# Altium footprint library Package_CSP.PcbLib: 178 footprints (part 9 of 12)
Each footprint in its own frame and in the unit in brackets; x right, y up, seen from the top. Pads: shape width x height; smd on the part's side, far side on the other; paste and mask are expansions set on the pad; w line width, h text height; cw(c..) or ccw(c..) is an arc to the next point about the centre after c.
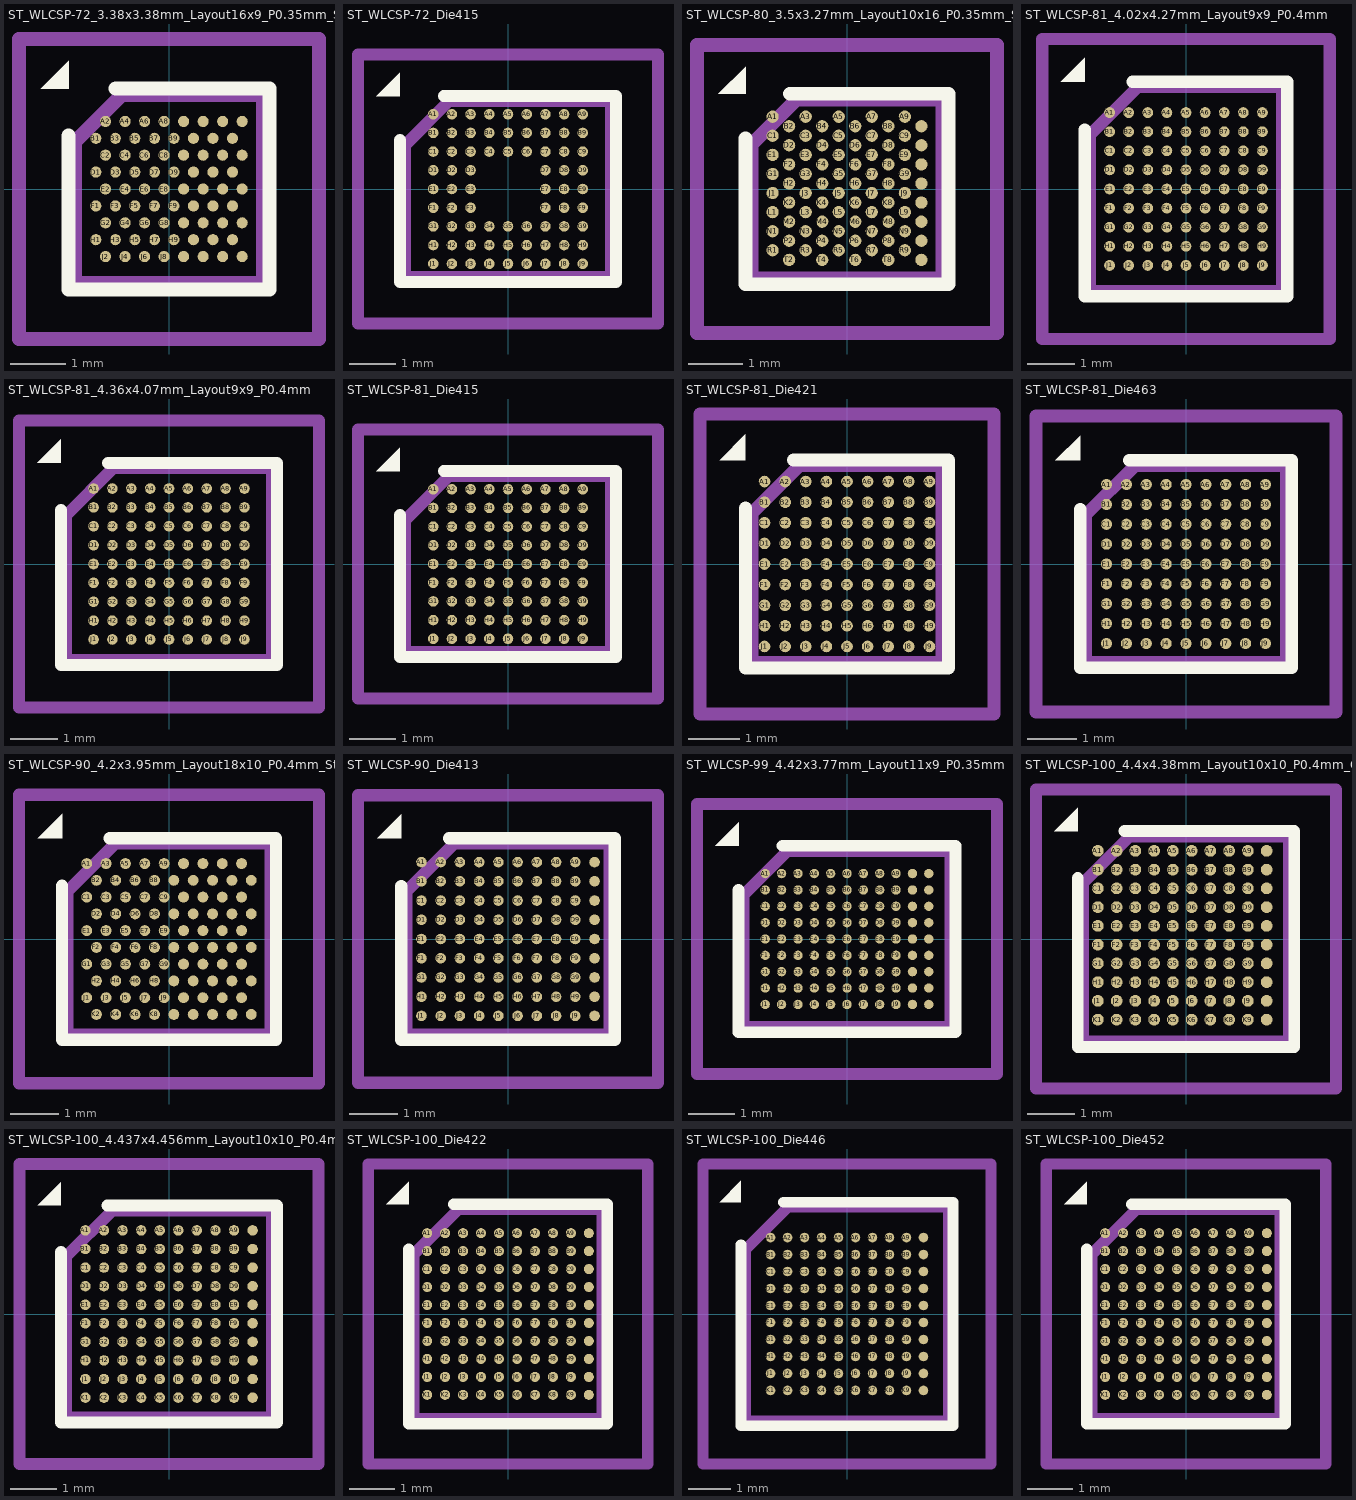
[diagram p8: the footprints below, top view; thin cyan lines are the x and y axes]

## ST_WLCSP-72_3.38x3.38mm_Layout16x9_P0.35mm_Stagger [mm]
pads (72):
  round 0.2 smd: A2(-1.138,1.212) A4(-0.787,1.212) A6(-0.437,1.212) A8(-0.088,1.212) A10(0.262,1.212) A12(0.613,1.212) A14(0.962,1.212) A16(1.312,1.212) B1(-1.312,0.909) B3(-0.962,0.909) B5(-0.613,0.909) B7(-0.262,0.909) B9(0.088,0.909) B11(0.437,0.909) B13(0.787,0.909) B15(1.138,0.909) C2(-1.138,0.606) C4(-0.787,0.606) C6(-0.437,0.606) C8(-0.088,0.606) C10(0.262,0.606) C12(0.613,0.606) C14(0.962,0.606) C16(1.312,0.606) D1(-1.312,0.303) D3(-0.962,0.303) D5(-0.613,0.303) D7(-0.262,0.303) D9(0.088,0.303) D11(0.437,0.303) D13(0.787,0.303) D15(1.138,0.303) E2(-1.138,0) E4(-0.787,0) E6(-0.437,0) E8(-0.088,0) E10(0.262,0) E12(0.613,0) E14(0.962,0) E16(1.312,0) F1(-1.312,-0.303) F3(-0.962,-0.303) F5(-0.613,-0.303) F7(-0.262,-0.303) F9(0.088,-0.303) F11(0.437,-0.303) F13(0.787,-0.303) F15(1.138,-0.303) G2(-1.138,-0.606) G4(-0.787,-0.606) G6(-0.437,-0.606) G8(-0.088,-0.606) G10(0.262,-0.606) G12(0.613,-0.606) G14(0.962,-0.606) G16(1.312,-0.606) H1(-1.312,-0.909) H3(-0.962,-0.909) H5(-0.613,-0.909) H7(-0.262,-0.909) H9(0.088,-0.909) H11(0.437,-0.909) H13(0.787,-0.909) H15(1.138,-0.909) J2(-1.138,-1.212) J4(-0.787,-1.212) J6(-0.437,-1.212) J8(-0.088,-1.212) J10(0.262,-1.212) J12(0.613,-1.212) J14(0.962,-1.212) J16(1.312,-1.212)
F.SilkS:
  region: -1.8,1.8 -2.3,1.8 -1.8,2.3
  lines w0.254: -1.8,0.955 -1.8,-1.8 1.8,-1.8 1.8,1.8 -0.955,1.8
Top Assembly:
  lines w0.254: -1.69,-1.69 1.69,-1.69 1.69,1.69 -0.845,1.69 -1.69,0.845 -1.69,-1.69
  text "'.Designator'" at -3.197,-0.664 h0.79
Top Courtyard:
  lines w0.254: -2.69,-2.69 2.69,-2.69 2.69,2.69 -2.69,2.69 -2.69,-2.69
Top Designator:
  text ".Designator" at -7.736,-0.508 h1.52

## ST_WLCSP-72_Die415 [mm]
pads (72):
  round 0.225 smd: A1(-1.6,1.6) A2(-1.2,1.6) A3(-0.8,1.6) A4(-0.4,1.6) A5(0,1.6) A6(0.4,1.6) A7(0.8,1.6) A8(1.2,1.6) A9(1.6,1.6) B1(-1.6,1.2) B2(-1.2,1.2) B3(-0.8,1.2) B4(-0.4,1.2) B5(0,1.2) B6(0.4,1.2) B7(0.8,1.2) B8(1.2,1.2) B9(1.6,1.2) C1(-1.6,0.8) C2(-1.2,0.8) C3(-0.8,0.8) C4(-0.4,0.8) C5(0,0.8) C6(0.4,0.8) C7(0.8,0.8) C8(1.2,0.8) C9(1.6,0.8) D1(-1.6,0.4) D2(-1.2,0.4) D3(-0.8,0.4) D7(0.8,0.4) D8(1.2,0.4) D9(1.6,0.4) E1(-1.6,0) E2(-1.2,0) E3(-0.8,0) E7(0.8,0) E8(1.2,0) E9(1.6,0) F1(-1.6,-0.4) F2(-1.2,-0.4) F3(-0.8,-0.4) F7(0.8,-0.4) F8(1.2,-0.4) F9(1.6,-0.4) G1(-1.6,-0.8) G2(-1.2,-0.8) G3(-0.8,-0.8) G4(-0.4,-0.8) G5(0,-0.8) G6(0.4,-0.8) G7(0.8,-0.8) G8(1.2,-0.8) G9(1.6,-0.8) H1(-1.6,-1.2) H2(-1.2,-1.2) H3(-0.8,-1.2) H4(-0.4,-1.2) H5(0,-1.2) H6(0.4,-1.2) H7(0.8,-1.2) H8(1.2,-1.2) H9(1.6,-1.2) J1(-1.6,-1.6) J2(-1.2,-1.6) J3(-0.8,-1.6) J4(-0.4,-1.6) J5(0,-1.6) J6(0.4,-1.6) J7(0.8,-1.6) J8(1.2,-1.6) J9(1.6,-1.6)
F.SilkS:
  region: -2.314,1.99 -2.814,1.99 -2.314,2.49
  lines w0.254: -2.314,1.05 -2.314,-1.99 2.314,-1.99 2.314,1.99 -1.374,1.99
Top Assembly:
  lines w0.254: -2.204,-1.88 2.204,-1.88 2.204,1.88 -1.264,1.88 -2.204,0.94 -2.204,-1.88
  text "'.Designator'" at -4.047,-0.84 h1
Top Courtyard:
  lines w0.254: -3.21,-2.88 3.21,-2.88 3.21,2.88 -3.21,2.88 -3.21,-2.88
Top Designator:
  text ".Designator" at -7.768,-0.508 h1.52

## ST_WLCSP-80_3.5x3.27mm_Layout10x16_P0.35mm_Stagger_Offcenter [mm]
pads (80):
  round 0.225 smd: A1(-1.364,1.326) A3(-0.758,1.326) A5(-0.152,1.326) A7(0.455,1.326) A9(1.061,1.326) B2(-1.061,1.151) B4(-0.455,1.151) B6(0.152,1.151) B8(0.758,1.151) B10(1.364,1.151) C1(-1.364,0.976) C3(-0.758,0.976) C5(-0.152,0.976) C7(0.455,0.976) C9(1.061,0.976) D2(-1.061,0.801) D4(-0.455,0.801) D6(0.152,0.801) D8(0.758,0.801) D10(1.364,0.801) E1(-1.364,0.626) E3(-0.758,0.626) E5(-0.152,0.626) E7(0.455,0.626) E9(1.061,0.626) F2(-1.061,0.451) F4(-0.455,0.451) F6(0.152,0.451) F8(0.758,0.451) F10(1.364,0.451) G1(-1.364,0.276) G3(-0.758,0.276) G5(-0.152,0.276) G7(0.455,0.276) G9(1.061,0.276) H2(-1.061,0.101) H4(-0.455,0.101) H6(0.152,0.101) H8(0.758,0.101) H10(1.364,0.101) J1(-1.364,-0.074) J3(-0.758,-0.074) J5(-0.152,-0.074) J7(0.455,-0.074) J9(1.061,-0.074) K2(-1.061,-0.249) K4(-0.455,-0.249) K6(0.152,-0.249) K8(0.758,-0.249) K10(1.364,-0.249) L1(-1.364,-0.424) L3(-0.758,-0.424) L5(-0.152,-0.424) L7(0.455,-0.424) L9(1.061,-0.424) M2(-1.061,-0.599) M4(-0.455,-0.599) M6(0.152,-0.599) M8(0.758,-0.599) M10(1.364,-0.599) N1(-1.364,-0.774) N3(-0.758,-0.774) N5(-0.152,-0.774) N7(0.455,-0.774) N9(1.061,-0.774) P2(-1.061,-0.949) P4(-0.455,-0.949) P6(0.152,-0.949) P8(0.758,-0.949) P10(1.364,-0.949) R1(-1.364,-1.124) R3(-0.758,-1.124) R5(-0.152,-1.124) R7(0.455,-1.124) R9(1.061,-1.124) T2(-1.061,-1.299) T4(-0.455,-1.299) T6(0.152,-1.299) T8(0.758,-1.299) T10(1.364,-1.299)
F.SilkS:
  region: -1.86,1.745 -2.36,1.745 -1.86,2.245
  lines w0.254: -1.86,0.927 -1.86,-1.745 1.86,-1.745 1.86,1.745 -1.042,1.745
Top Assembly:
  lines w0.254: -1.75,-1.635 1.75,-1.635 1.75,1.635 -0.933,1.635 -1.75,0.817 -1.75,-1.635
  text "'.Designator'" at -3.278,-0.681 h0.81
Top Courtyard:
  lines w0.254: -2.75,-2.64 2.75,-2.64 2.75,2.64 -2.75,2.64 -2.75,-2.64
Top Designator:
  text ".Designator" at -7.739,-0.508 h1.52

## ST_WLCSP-81_4.02x4.27mm_Layout9x9_P0.4mm [mm]
pads (81):
  round 0.225 smd: A1(-1.6,1.6) A2(-1.2,1.6) A3(-0.8,1.6) A4(-0.4,1.6) A5(0,1.6) A6(0.4,1.6) A7(0.8,1.6) A8(1.2,1.6) A9(1.6,1.6) B1(-1.6,1.2) B2(-1.2,1.2) B3(-0.8,1.2) B4(-0.4,1.2) B5(0,1.2) B6(0.4,1.2) B7(0.8,1.2) B8(1.2,1.2) B9(1.6,1.2) C1(-1.6,0.8) C2(-1.2,0.8) C3(-0.8,0.8) C4(-0.4,0.8) C5(0,0.8) C6(0.4,0.8) C7(0.8,0.8) C8(1.2,0.8) C9(1.6,0.8) D1(-1.6,0.4) D2(-1.2,0.4) D3(-0.8,0.4) D4(-0.4,0.4) D5(0,0.4) D6(0.4,0.4) D7(0.8,0.4) D8(1.2,0.4) D9(1.6,0.4) E1(-1.6,0) E2(-1.2,0) E3(-0.8,0) E4(-0.4,0) E5(0,0) E6(0.4,0) E7(0.8,0) E8(1.2,0) E9(1.6,0) F1(-1.6,-0.4) F2(-1.2,-0.4) F3(-0.8,-0.4) F4(-0.4,-0.4) F5(0,-0.4) F6(0.4,-0.4) F7(0.8,-0.4) F8(1.2,-0.4) F9(1.6,-0.4) G1(-1.6,-0.8) G2(-1.2,-0.8) G3(-0.8,-0.8) G4(-0.4,-0.8) G5(0,-0.8) G6(0.4,-0.8) G7(0.8,-0.8) G8(1.2,-0.8) G9(1.6,-0.8) H1(-1.6,-1.2) H2(-1.2,-1.2) H3(-0.8,-1.2) H4(-0.4,-1.2) H5(0,-1.2) H6(0.4,-1.2) H7(0.8,-1.2) H8(1.2,-1.2) H9(1.6,-1.2) J1(-1.6,-1.6) J2(-1.2,-1.6) J3(-0.8,-1.6) J4(-0.4,-1.6) J5(0,-1.6) J6(0.4,-1.6) J7(0.8,-1.6) J8(1.2,-1.6) J9(1.6,-1.6)
F.SilkS:
  region: -2.12,2.245 -2.62,2.245 -2.12,2.745
  lines w0.254: -2.12,1.245 -2.12,-2.245 2.12,-2.245 2.12,2.245 -1.12,2.245
Top Assembly:
  lines w0.254: -2.01,-2.135 2.01,-2.135 2.01,2.135 -1.01,2.135 -2.01,1.135 -2.01,-2.135
  text "'.Designator'" at -0.832,4.006 h0.99
Top Courtyard:
  lines w0.254: -3.01,-3.14 3.01,-3.14 3.01,3.14 -3.01,3.14 -3.01,-3.14
Top Designator:
  text ".Designator" at -7.618,-0.359 h1.52

## ST_WLCSP-81_4.36x4.07mm_Layout9x9_P0.4mm [mm]
pads (81):
  round 0.225 smd: A1(-1.6,1.6) A2(-1.2,1.6) A3(-0.8,1.6) A4(-0.4,1.6) A5(0,1.6) A6(0.4,1.6) A7(0.8,1.6) A8(1.2,1.6) A9(1.6,1.6) B1(-1.6,1.2) B2(-1.2,1.2) B3(-0.8,1.2) B4(-0.4,1.2) B5(0,1.2) B6(0.4,1.2) B7(0.8,1.2) B8(1.2,1.2) B9(1.6,1.2) C1(-1.6,0.8) C2(-1.2,0.8) C3(-0.8,0.8) C4(-0.4,0.8) C5(0,0.8) C6(0.4,0.8) C7(0.8,0.8) C8(1.2,0.8) C9(1.6,0.8) D1(-1.6,0.4) D2(-1.2,0.4) D3(-0.8,0.4) D4(-0.4,0.4) D5(0,0.4) D6(0.4,0.4) D7(0.8,0.4) D8(1.2,0.4) D9(1.6,0.4) E1(-1.6,0) E2(-1.2,0) E3(-0.8,0) E4(-0.4,0) E5(0,0) E6(0.4,0) E7(0.8,0) E8(1.2,0) E9(1.6,0) F1(-1.6,-0.4) F2(-1.2,-0.4) F3(-0.8,-0.4) F4(-0.4,-0.4) F5(0,-0.4) F6(0.4,-0.4) F7(0.8,-0.4) F8(1.2,-0.4) F9(1.6,-0.4) G1(-1.6,-0.8) G2(-1.2,-0.8) G3(-0.8,-0.8) G4(-0.4,-0.8) G5(0,-0.8) G6(0.4,-0.8) G7(0.8,-0.8) G8(1.2,-0.8) G9(1.6,-0.8) H1(-1.6,-1.2) H2(-1.2,-1.2) H3(-0.8,-1.2) H4(-0.4,-1.2) H5(0,-1.2) H6(0.4,-1.2) H7(0.8,-1.2) H8(1.2,-1.2) H9(1.6,-1.2) J1(-1.6,-1.6) J2(-1.2,-1.6) J3(-0.8,-1.6) J4(-0.4,-1.6) J5(0,-1.6) J6(0.4,-1.6) J7(0.8,-1.6) J8(1.2,-1.6) J9(1.6,-1.6)
F.SilkS:
  region: -2.29,2.145 -2.79,2.145 -2.29,2.645
  lines w0.254: -2.29,1.145 -2.29,-2.145 2.29,-2.145 2.29,2.145 -1.29,2.145
Top Assembly:
  lines w0.254: -2.18,-2.035 2.18,-2.035 2.18,2.035 -1.18,2.035 -2.18,1.035 -2.18,-2.035
  text "'.Designator'" at -4.047,-0.84 h1
Top Courtyard:
  lines w0.254: -3.18,-3.04 3.18,-3.04 3.18,3.04 -3.18,3.04 -3.18,-3.04
Top Designator:
  text ".Designator" at -7.768,-0.508 h1.52

## ST_WLCSP-81_Die415 [mm]
pads (81):
  round 0.225 smd: A1(-1.6,1.6) A2(-1.2,1.6) A3(-0.8,1.6) A4(-0.4,1.6) A5(0,1.6) A6(0.4,1.6) A7(0.8,1.6) A8(1.2,1.6) A9(1.6,1.6) B1(-1.6,1.2) B2(-1.2,1.2) B3(-0.8,1.2) B4(-0.4,1.2) B5(0,1.2) B6(0.4,1.2) B7(0.8,1.2) B8(1.2,1.2) B9(1.6,1.2) C1(-1.6,0.8) C2(-1.2,0.8) C3(-0.8,0.8) C4(-0.4,0.8) C5(0,0.8) C6(0.4,0.8) C7(0.8,0.8) C8(1.2,0.8) C9(1.6,0.8) D1(-1.6,0.4) D2(-1.2,0.4) D3(-0.8,0.4) D4(-0.4,0.4) D5(0,0.4) D6(0.4,0.4) D7(0.8,0.4) D8(1.2,0.4) D9(1.6,0.4) E1(-1.6,0) E2(-1.2,0) E3(-0.8,0) E4(-0.4,0) E5(0,0) E6(0.4,0) E7(0.8,0) E8(1.2,0) E9(1.6,0) F1(-1.6,-0.4) F2(-1.2,-0.4) F3(-0.8,-0.4) F4(-0.4,-0.4) F5(0,-0.4) F6(0.4,-0.4) F7(0.8,-0.4) F8(1.2,-0.4) F9(1.6,-0.4) G1(-1.6,-0.8) G2(-1.2,-0.8) G3(-0.8,-0.8) G4(-0.4,-0.8) G5(0,-0.8) G6(0.4,-0.8) G7(0.8,-0.8) G8(1.2,-0.8) G9(1.6,-0.8) H1(-1.6,-1.2) H2(-1.2,-1.2) H3(-0.8,-1.2) H4(-0.4,-1.2) H5(0,-1.2) H6(0.4,-1.2) H7(0.8,-1.2) H8(1.2,-1.2) H9(1.6,-1.2) J1(-1.6,-1.6) J2(-1.2,-1.6) J3(-0.8,-1.6) J4(-0.4,-1.6) J5(0,-1.6) J6(0.4,-1.6) J7(0.8,-1.6) J8(1.2,-1.6) J9(1.6,-1.6)
F.SilkS:
  region: -2.314,1.99 -2.814,1.99 -2.314,2.49
  lines w0.254: -2.314,1.05 -2.314,-1.99 2.314,-1.99 2.314,1.99 -1.374,1.99
Top Assembly:
  lines w0.254: -2.204,-1.88 2.204,-1.88 2.204,1.88 -1.264,1.88 -2.204,0.94 -2.204,-1.88
  text "'.Designator'" at -4.047,-0.84 h1
Top Courtyard:
  lines w0.254: -3.21,-2.88 3.21,-2.88 3.21,2.88 -3.21,2.88 -3.21,-2.88
Top Designator:
  text ".Designator" at -7.768,-0.508 h1.52

## ST_WLCSP-81_Die421 [mm]
pads (81):
  round 0.225 smd: A1(-1.6,1.6) A2(-1.2,1.6) A3(-0.8,1.6) A4(-0.4,1.6) A5(0,1.6) A6(0.4,1.6) A7(0.8,1.6) A8(1.2,1.6) A9(1.6,1.6) B1(-1.6,1.2) B2(-1.2,1.2) B3(-0.8,1.2) B4(-0.4,1.2) B5(0,1.2) B6(0.4,1.2) B7(0.8,1.2) B8(1.2,1.2) B9(1.6,1.2) C1(-1.6,0.8) C2(-1.2,0.8) C3(-0.8,0.8) C4(-0.4,0.8) C5(0,0.8) C6(0.4,0.8) C7(0.8,0.8) C8(1.2,0.8) C9(1.6,0.8) D1(-1.6,0.4) D2(-1.2,0.4) D3(-0.8,0.4) D4(-0.4,0.4) D5(0,0.4) D6(0.4,0.4) D7(0.8,0.4) D8(1.2,0.4) D9(1.6,0.4) E1(-1.6,0) E2(-1.2,0) E3(-0.8,0) E4(-0.4,0) E5(0,0) E6(0.4,0) E7(0.8,0) E8(1.2,0) E9(1.6,0) F1(-1.6,-0.4) F2(-1.2,-0.4) F3(-0.8,-0.4) F4(-0.4,-0.4) F5(0,-0.4) F6(0.4,-0.4) F7(0.8,-0.4) F8(1.2,-0.4) F9(1.6,-0.4) G1(-1.6,-0.8) G2(-1.2,-0.8) G3(-0.8,-0.8) G4(-0.4,-0.8) G5(0,-0.8) G6(0.4,-0.8) G7(0.8,-0.8) G8(1.2,-0.8) G9(1.6,-0.8) H1(-1.6,-1.2) H2(-1.2,-1.2) H3(-0.8,-1.2) H4(-0.4,-1.2) H5(0,-1.2) H6(0.4,-1.2) H7(0.8,-1.2) H8(1.2,-1.2) H9(1.6,-1.2) J1(-1.6,-1.6) J2(-1.2,-1.6) J3(-0.8,-1.6) J4(-0.4,-1.6) J5(0,-1.6) J6(0.4,-1.6) J7(0.8,-1.6) J8(1.2,-1.6) J9(1.6,-1.6)
F.SilkS:
  region: -1.973,2.017 -2.472,2.017 -1.973,2.518
  lines w0.254: -1.973,1.086 -1.973,-2.017 1.973,-2.017 1.973,2.017 -1.041,2.017
Top Assembly:
  lines w0.254: -1.847,-1.907 1.847,-1.907 1.847,1.907 -0.923,1.907 -1.847,0.984 -1.847,-1.907
  text "'.Designator'" at -0.748,3.602 h0.89
Top Courtyard:
  lines w0.254: -2.85,-2.91 2.85,-2.91 2.85,2.91 -2.85,2.91 -2.85,-2.91
Top Designator:
  text ".Designator" at -7.618,-0.374 h1.52

## ST_WLCSP-81_Die463 [mm]
pads (81):
  round 0.225 smd: A1(-1.6,1.6) A2(-1.2,1.6) A3(-0.8,1.6) A4(-0.4,1.6) A5(0,1.6) A6(0.4,1.6) A7(0.8,1.6) A8(1.2,1.6) A9(1.6,1.6) B1(-1.6,1.2) B2(-1.2,1.2) B3(-0.8,1.2) B4(-0.4,1.2) B5(0,1.2) B6(0.4,1.2) B7(0.8,1.2) B8(1.2,1.2) B9(1.6,1.2) C1(-1.6,0.8) C2(-1.2,0.8) C3(-0.8,0.8) C4(-0.4,0.8) C5(0,0.8) C6(0.4,0.8) C7(0.8,0.8) C8(1.2,0.8) C9(1.6,0.8) D1(-1.6,0.4) D2(-1.2,0.4) D3(-0.8,0.4) D4(-0.4,0.4) D5(0,0.4) D6(0.4,0.4) D7(0.8,0.4) D8(1.2,0.4) D9(1.6,0.4) E1(-1.6,0) E2(-1.2,0) E3(-0.8,0) E4(-0.4,0) E5(0,0) E6(0.4,0) E7(0.8,0) E8(1.2,0) E9(1.6,0) F1(-1.6,-0.4) F2(-1.2,-0.4) F3(-0.8,-0.4) F4(-0.4,-0.4) F5(0,-0.4) F6(0.4,-0.4) F7(0.8,-0.4) F8(1.2,-0.4) F9(1.6,-0.4) G1(-1.6,-0.8) G2(-1.2,-0.8) G3(-0.8,-0.8) G4(-0.4,-0.8) G5(0,-0.8) G6(0.4,-0.8) G7(0.8,-0.8) G8(1.2,-0.8) G9(1.6,-0.8) H1(-1.6,-1.2) H2(-1.2,-1.2) H3(-0.8,-1.2) H4(-0.4,-1.2) H5(0,-1.2) H6(0.4,-1.2) H7(0.8,-1.2) H8(1.2,-1.2) H9(1.6,-1.2) J1(-1.6,-1.6) J2(-1.2,-1.6) J3(-0.8,-1.6) J4(-0.4,-1.6) J5(0,-1.6) J6(0.4,-1.6) J7(0.8,-1.6) J8(1.2,-1.6) J9(1.6,-1.6)
F.SilkS:
  region: -2.13,2.086 -2.629,2.086 -2.13,2.585
  lines w0.254: -2.13,1.098 -2.13,-2.086 2.13,-2.086 2.13,2.086 -1.142,2.086
Top Assembly:
  lines w0.254: -2.02,-1.976 2.02,-1.976 2.02,1.976 -1.032,1.976 -2.02,0.988 -2.02,-1.976
  text "'.Designator'" at -3.804,-0.79 h0.94
Top Courtyard:
  lines w0.254: -3.02,-2.98 3.02,-2.98 3.02,2.98 -3.02,2.98 -3.02,-2.98
Top Designator:
  text ".Designator" at -7.759,-0.508 h1.52

## ST_WLCSP-90_4.2x3.95mm_Layout18x10_P0.4mm_Stagger [mm]
pads (90):
  round 0.225 smd: A1(-1.7,1.559) A3(-1.3,1.559) A5(-0.9,1.559) A7(-0.5,1.559) A9(-0.1,1.559) A11(0.3,1.559) A13(0.7,1.559) A15(1.1,1.559) A17(1.5,1.559) B2(-1.5,1.212) B4(-1.1,1.212) B6(-0.7,1.212) B8(-0.3,1.212) B10(0.1,1.212) B12(0.5,1.212) B14(0.9,1.212) B16(1.3,1.212) B18(1.7,1.212) C1(-1.7,0.866) C3(-1.3,0.866) C5(-0.9,0.866) C7(-0.5,0.866) C9(-0.1,0.866) C11(0.3,0.866) C13(0.7,0.866) C15(1.1,0.866) C17(1.5,0.866) D2(-1.5,0.52) D4(-1.1,0.52) D6(-0.7,0.52) D8(-0.3,0.52) D10(0.1,0.52) D12(0.5,0.52) D14(0.9,0.52) D16(1.3,0.52) D18(1.7,0.52) E1(-1.7,0.173) E3(-1.3,0.173) E5(-0.9,0.173) E7(-0.5,0.173) E9(-0.1,0.173) E11(0.3,0.173) E13(0.7,0.173) E15(1.1,0.173) E17(1.5,0.173) F2(-1.5,-0.173) F4(-1.1,-0.173) F6(-0.7,-0.173) F8(-0.3,-0.173) F10(0.1,-0.173) F12(0.5,-0.173) F14(0.9,-0.173) F16(1.3,-0.173) F18(1.7,-0.173) G1(-1.7,-0.52) G3(-1.3,-0.52) G5(-0.9,-0.52) G7(-0.5,-0.52) G9(-0.1,-0.52) G11(0.3,-0.52) G13(0.7,-0.52) G15(1.1,-0.52) G17(1.5,-0.52) H2(-1.5,-0.866) H4(-1.1,-0.866) H6(-0.7,-0.866) H8(-0.3,-0.866) H10(0.1,-0.866) H12(0.5,-0.866) H14(0.9,-0.866) H16(1.3,-0.866) H18(1.7,-0.866) J1(-1.7,-1.212) J3(-1.3,-1.212) J5(-0.9,-1.212) J7(-0.5,-1.212) J9(-0.1,-1.212) J11(0.3,-1.212) J13(0.7,-1.212) J15(1.1,-1.212) J17(1.5,-1.212) K2(-1.5,-1.559) K4(-1.1,-1.559) K6(-0.7,-1.559) K8(-0.3,-1.559) K10(0.1,-1.559) K12(0.5,-1.559) K14(0.9,-1.559) K16(1.3,-1.559) K18(1.7,-1.559)
F.SilkS:
  region: -2.21,2.085 -2.71,2.085 -2.21,2.585
  lines w0.254: -2.21,1.098 -2.21,-2.085 2.21,-2.085 2.21,2.085 -1.222,2.085
Top Assembly:
  lines w0.254: -2.1,-1.975 2.1,-1.975 2.1,1.975 -1.112,1.975 -2.1,0.988 -2.1,-1.975
  text "'.Designator'" at -3.966,-0.824 h0.98
Top Courtyard:
  lines w0.254: -3.1,-2.98 3.1,-2.98 3.1,2.98 -3.1,2.98 -3.1,-2.98
Top Designator:
  text ".Designator" at -7.765,-0.508 h1.52

## ST_WLCSP-90_Die413 [mm]
pads (90):
  round 0.22 smd: A1(-1.8,1.6) A2(-1.4,1.6) A3(-1,1.6) A4(-0.6,1.6) A5(-0.2,1.6) A6(0.2,1.6) A7(0.6,1.6) A8(1,1.6) A9(1.4,1.6) A10(1.8,1.6) B1(-1.8,1.2) B2(-1.4,1.2) B3(-1,1.2) B4(-0.6,1.2) B5(-0.2,1.2) B6(0.2,1.2) B7(0.6,1.2) B8(1,1.2) B9(1.4,1.2) B10(1.8,1.2) C1(-1.8,0.8) C2(-1.4,0.8) C3(-1,0.8) C4(-0.6,0.8) C5(-0.2,0.8) C6(0.2,0.8) C7(0.6,0.8) C8(1,0.8) C9(1.4,0.8) C10(1.8,0.8) D1(-1.8,0.4) D2(-1.4,0.4) D3(-1,0.4) D4(-0.6,0.4) D5(-0.2,0.4) D6(0.2,0.4) D7(0.6,0.4) D8(1,0.4) D9(1.4,0.4) D10(1.8,0.4) E1(-1.8,0) E2(-1.4,0) E3(-1,0) E4(-0.6,0) E5(-0.2,0) E6(0.2,0) E7(0.6,0) E8(1,0) E9(1.4,0) E10(1.8,0) F1(-1.8,-0.4) F2(-1.4,-0.4) F3(-1,-0.4) F4(-0.6,-0.4) F5(-0.2,-0.4) F6(0.2,-0.4) F7(0.6,-0.4) F8(1,-0.4) F9(1.4,-0.4) F10(1.8,-0.4) G1(-1.8,-0.8) G2(-1.4,-0.8) G3(-1,-0.8) G4(-0.6,-0.8) G5(-0.2,-0.8) G6(0.2,-0.8) G7(0.6,-0.8) G8(1,-0.8) G9(1.4,-0.8) G10(1.8,-0.8) H1(-1.8,-1.2) H2(-1.4,-1.2) H3(-1,-1.2) H4(-0.6,-1.2) H5(-0.2,-1.2) H6(0.2,-1.2) H7(0.6,-1.2) H8(1,-1.2) H9(1.4,-1.2) H10(1.8,-1.2) J1(-1.8,-1.6) J2(-1.4,-1.6) J3(-1,-1.6) J4(-0.6,-1.6) J5(-0.2,-1.6) J6(0.2,-1.6) J7(0.6,-1.6) J8(1,-1.6) J9(1.4,-1.6) J10(1.8,-1.6)
F.SilkS:
  region: -2.221,2.094 -2.722,2.094 -2.221,2.595
  lines w0.254: -2.221,1.102 -2.221,-2.094 2.221,-2.094 2.221,2.094 -1.229,2.094
Top Assembly:
  lines w0.254: -2.111,-1.984 2.111,-1.984 2.111,1.984 -1.119,1.984 -2.111,0.992 -2.111,-1.984
  text "'.Designator'" at -3.966,-0.824 h0.98
Top Courtyard:
  lines w0.254: -3.12,-2.99 3.12,-2.99 3.12,2.99 -3.12,2.99 -3.12,-2.99
Top Designator:
  text ".Designator" at -7.765,-0.508 h1.52

## ST_WLCSP-99_4.42x3.77mm_Layout11x9_P0.35mm [mm]
pads (99):
  round 0.2 smd: A1(-1.75,1.4) A2(-1.4,1.4) A3(-1.05,1.4) A4(-0.7,1.4) A5(-0.35,1.4) A6(0,1.4) A7(0.35,1.4) A8(0.7,1.4) A9(1.05,1.4) A10(1.4,1.4) A11(1.75,1.4) B1(-1.75,1.05) B2(-1.4,1.05) B3(-1.05,1.05) B4(-0.7,1.05) B5(-0.35,1.05) B6(0,1.05) B7(0.35,1.05) B8(0.7,1.05) B9(1.05,1.05) B10(1.4,1.05) B11(1.75,1.05) C1(-1.75,0.7) C2(-1.4,0.7) C3(-1.05,0.7) C4(-0.7,0.7) C5(-0.35,0.7) C6(0,0.7) C7(0.35,0.7) C8(0.7,0.7) C9(1.05,0.7) C10(1.4,0.7) C11(1.75,0.7) D1(-1.75,0.35) D2(-1.4,0.35) D3(-1.05,0.35) D4(-0.7,0.35) D5(-0.35,0.35) D6(0,0.35) D7(0.35,0.35) D8(0.7,0.35) D9(1.05,0.35) D10(1.4,0.35) D11(1.75,0.35) E1(-1.75,0) E2(-1.4,0) E3(-1.05,0) E4(-0.7,0) E5(-0.35,0) E6(0,0) E7(0.35,0) E8(0.7,0) E9(1.05,0) E10(1.4,0) E11(1.75,0) F1(-1.75,-0.35) F2(-1.4,-0.35) F3(-1.05,-0.35) F4(-0.7,-0.35) F5(-0.35,-0.35) F6(0,-0.35) F7(0.35,-0.35) F8(0.7,-0.35) F9(1.05,-0.35) F10(1.4,-0.35) F11(1.75,-0.35) G1(-1.75,-0.7) G2(-1.4,-0.7) G3(-1.05,-0.7) G4(-0.7,-0.7) G5(-0.35,-0.7) G6(0,-0.7) G7(0.35,-0.7) G8(0.7,-0.7) G9(1.05,-0.7) G10(1.4,-0.7) G11(1.75,-0.7) H1(-1.75,-1.05) H2(-1.4,-1.05) H3(-1.05,-1.05) H4(-0.7,-1.05) H5(-0.35,-1.05) H6(0,-1.05) H7(0.35,-1.05) H8(0.7,-1.05) H9(1.05,-1.05) H10(1.4,-1.05) H11(1.75,-1.05) J1(-1.75,-1.4) J2(-1.4,-1.4) J3(-1.05,-1.4) J4(-0.7,-1.4) J5(-0.35,-1.4) J6(0,-1.4) J7(0.35,-1.4) J8(0.7,-1.4) J9(1.05,-1.4) J10(1.4,-1.4) J11(1.75,-1.4)
F.SilkS:
  region: -2.32,1.995 -2.82,1.995 -2.32,2.495
  lines w0.254: -2.32,1.052 -2.32,-1.995 2.32,-1.995 2.32,1.995 -1.378,1.995
Top Assembly:
  lines w0.254: -2.21,-1.885 2.21,-1.885 2.21,1.885 -1.268,1.885 -2.21,0.943 -2.21,-1.885
  text "'.Designator'" at -4.047,-0.84 h1
Top Courtyard:
  lines w0.254: -3.21,-2.89 3.21,-2.89 3.21,2.89 -3.21,2.89 -3.21,-2.89
Top Designator:
  text ".Designator" at -7.768,-0.508 h1.52

## ST_WLCSP-100_4.4x4.38mm_Layout10x10_P0.4mm_Offcenter [mm]
pads (100):
  round 0.25 smd: A1(-1.88,1.88) A2(-1.48,1.88) A3(-1.08,1.88) A4(-0.68,1.88) A5(-0.28,1.88) A6(0.12,1.88) A7(0.52,1.88) A8(0.92,1.88) A9(1.32,1.88) A10(1.72,1.88) B1(-1.88,1.48) B2(-1.48,1.48) B3(-1.08,1.48) B4(-0.68,1.48) B5(-0.28,1.48) B6(0.12,1.48) B7(0.52,1.48) B8(0.92,1.48) B9(1.32,1.48) B10(1.72,1.48) C1(-1.88,1.08) C2(-1.48,1.08) C3(-1.08,1.08) C4(-0.68,1.08) C5(-0.28,1.08) C6(0.12,1.08) C7(0.52,1.08) C8(0.92,1.08) C9(1.32,1.08) C10(1.72,1.08) D1(-1.88,0.68) D2(-1.48,0.68) D3(-1.08,0.68) D4(-0.68,0.68) D5(-0.28,0.68) D6(0.12,0.68) D7(0.52,0.68) D8(0.92,0.68) D9(1.32,0.68) D10(1.72,0.68) E1(-1.88,0.28) E2(-1.48,0.28) E3(-1.08,0.28) E4(-0.68,0.28) E5(-0.28,0.28) E6(0.12,0.28) E7(0.52,0.28) E8(0.92,0.28) E9(1.32,0.28) E10(1.72,0.28) F1(-1.88,-0.12) F2(-1.48,-0.12) F3(-1.08,-0.12) F4(-0.68,-0.12) F5(-0.28,-0.12) F6(0.12,-0.12) F7(0.52,-0.12) F8(0.92,-0.12) F9(1.32,-0.12) F10(1.72,-0.12) G1(-1.88,-0.52) G2(-1.48,-0.52) G3(-1.08,-0.52) G4(-0.68,-0.52) G5(-0.28,-0.52) G6(0.12,-0.52) G7(0.52,-0.52) G8(0.92,-0.52) G9(1.32,-0.52) G10(1.72,-0.52) H1(-1.88,-0.92) H2(-1.48,-0.92) H3(-1.08,-0.92) H4(-0.68,-0.92) H5(-0.28,-0.92) H6(0.12,-0.92) H7(0.52,-0.92) H8(0.92,-0.92) H9(1.32,-0.92) H10(1.72,-0.92) J1(-1.88,-1.32) J2(-1.48,-1.32) J3(-1.08,-1.32) J4(-0.68,-1.32) J5(-0.28,-1.32) J6(0.12,-1.32) J7(0.52,-1.32) J8(0.92,-1.32) J9(1.32,-1.32) J10(1.72,-1.32) K1(-1.88,-1.72) K2(-1.48,-1.72) K3(-1.08,-1.72) K4(-0.68,-1.72) K5(-0.28,-1.72) K6(0.12,-1.72) K7(0.52,-1.72) K8(0.92,-1.72) K9(1.32,-1.72) K10(1.72,-1.72)
F.SilkS:
  region: -2.31,2.3 -2.81,2.3 -2.31,2.8
  lines w0.254: -2.31,1.3 -2.31,-2.3 2.31,-2.3 2.31,2.3 -1.31,2.3
Top Assembly:
  lines w0.254: -2.2,-2.19 2.2,-2.19 2.2,2.19 -1.2,2.19 -2.2,1.19 -2.2,-2.19
  text "'.Designator'" at -4.047,-0.84 h1
Top Courtyard:
  lines w0.254: -3.2,-3.19 3.2,-3.19 3.2,3.19 -3.2,3.19 -3.2,-3.19
Top Designator:
  text ".Designator" at -7.768,-0.508 h1.52

## ST_WLCSP-100_4.437x4.456mm_Layout10x10_P0.4mm [mm]
pads (100):
  round 0.225 smd: A1(-1.8,1.8) A2(-1.4,1.8) A3(-1,1.8) A4(-0.6,1.8) A5(-0.2,1.8) A6(0.2,1.8) A7(0.6,1.8) A8(1,1.8) A9(1.4,1.8) A10(1.8,1.8) B1(-1.8,1.4) B2(-1.4,1.4) B3(-1,1.4) B4(-0.6,1.4) B5(-0.2,1.4) B6(0.2,1.4) B7(0.6,1.4) B8(1,1.4) B9(1.4,1.4) B10(1.8,1.4) C1(-1.8,1) C2(-1.4,1) C3(-1,1) C4(-0.6,1) C5(-0.2,1) C6(0.2,1) C7(0.6,1) C8(1,1) C9(1.4,1) C10(1.8,1) D1(-1.8,0.6) D2(-1.4,0.6) D3(-1,0.6) D4(-0.6,0.6) D5(-0.2,0.6) D6(0.2,0.6) D7(0.6,0.6) D8(1,0.6) D9(1.4,0.6) D10(1.8,0.6) E1(-1.8,0.2) E2(-1.4,0.2) E3(-1,0.2) E4(-0.6,0.2) E5(-0.2,0.2) E6(0.2,0.2) E7(0.6,0.2) E8(1,0.2) E9(1.4,0.2) E10(1.8,0.2) F1(-1.8,-0.2) F2(-1.4,-0.2) F3(-1,-0.2) F4(-0.6,-0.2) F5(-0.2,-0.2) F6(0.2,-0.2) F7(0.6,-0.2) F8(1,-0.2) F9(1.4,-0.2) F10(1.8,-0.2) G1(-1.8,-0.6) G2(-1.4,-0.6) G3(-1,-0.6) G4(-0.6,-0.6) G5(-0.2,-0.6) G6(0.2,-0.6) G7(0.6,-0.6) G8(1,-0.6) G9(1.4,-0.6) G10(1.8,-0.6) H1(-1.8,-1) H2(-1.4,-1) H3(-1,-1) H4(-0.6,-1) H5(-0.2,-1) H6(0.2,-1) H7(0.6,-1) H8(1,-1) H9(1.4,-1) H10(1.8,-1) J1(-1.8,-1.4) J2(-1.4,-1.4) J3(-1,-1.4) J4(-0.6,-1.4) J5(-0.2,-1.4) J6(0.2,-1.4) J7(0.6,-1.4) J8(1,-1.4) J9(1.4,-1.4) J10(1.8,-1.4) K1(-1.8,-1.8) K2(-1.4,-1.8) K3(-1,-1.8) K4(-0.6,-1.8) K5(-0.2,-1.8) K6(0.2,-1.8) K7(0.6,-1.8) K8(1,-1.8) K9(1.4,-1.8) K10(1.8,-1.8)
F.SilkS:
  region: -2.328,2.338 -2.829,2.338 -2.328,2.838
  lines w0.254: -2.328,1.338 -2.328,-2.338 2.328,-2.338 2.328,2.338 -1.328,2.338
Top Assembly:
  lines w0.254: -2.218,-2.228 2.218,-2.228 2.218,2.228 -1.218,2.228 -2.218,1.228 -2.218,-2.228
  text "'.Designator'" at -4.047,-0.84 h1
Top Courtyard:
  lines w0.254: -3.22,-3.23 3.22,-3.23 3.22,3.23 -3.22,3.23 -3.22,-3.23
Top Designator:
  text ".Designator" at -7.768,-0.508 h1.52

## ST_WLCSP-100_Die422 [mm]
pads (100):
  round 0.225 smd: A1(-1.8,1.8) A2(-1.4,1.8) A3(-1,1.8) A4(-0.6,1.8) A5(-0.2,1.8) A6(0.2,1.8) A7(0.6,1.8) A8(1,1.8) A9(1.4,1.8) A10(1.8,1.8) B1(-1.8,1.4) B2(-1.4,1.4) B3(-1,1.4) B4(-0.6,1.4) B5(-0.2,1.4) B6(0.2,1.4) B7(0.6,1.4) B8(1,1.4) B9(1.4,1.4) B10(1.8,1.4) C1(-1.8,1) C2(-1.4,1) C3(-1,1) C4(-0.6,1) C5(-0.2,1) C6(0.2,1) C7(0.6,1) C8(1,1) C9(1.4,1) C10(1.8,1) D1(-1.8,0.6) D2(-1.4,0.6) D3(-1,0.6) D4(-0.6,0.6) D5(-0.2,0.6) D6(0.2,0.6) D7(0.6,0.6) D8(1,0.6) D9(1.4,0.6) D10(1.8,0.6) E1(-1.8,0.2) E2(-1.4,0.2) E3(-1,0.2) E4(-0.6,0.2) E5(-0.2,0.2) E6(0.2,0.2) E7(0.6,0.2) E8(1,0.2) E9(1.4,0.2) E10(1.8,0.2) F1(-1.8,-0.2) F2(-1.4,-0.2) F3(-1,-0.2) F4(-0.6,-0.2) F5(-0.2,-0.2) F6(0.2,-0.2) F7(0.6,-0.2) F8(1,-0.2) F9(1.4,-0.2) F10(1.8,-0.2) G1(-1.8,-0.6) G2(-1.4,-0.6) G3(-1,-0.6) G4(-0.6,-0.6) G5(-0.2,-0.6) G6(0.2,-0.6) G7(0.6,-0.6) G8(1,-0.6) G9(1.4,-0.6) G10(1.8,-0.6) H1(-1.8,-1) H2(-1.4,-1) H3(-1,-1) H4(-0.6,-1) H5(-0.2,-1) H6(0.2,-1) H7(0.6,-1) H8(1,-1) H9(1.4,-1) H10(1.8,-1) J1(-1.8,-1.4) J2(-1.4,-1.4) J3(-1,-1.4) J4(-0.6,-1.4) J5(-0.2,-1.4) J6(0.2,-1.4) J7(0.6,-1.4) J8(1,-1.4) J9(1.4,-1.4) J10(1.8,-1.4) K1(-1.8,-1.8) K2(-1.4,-1.8) K3(-1,-1.8) K4(-0.6,-1.8) K5(-0.2,-1.8) K6(0.2,-1.8) K7(0.6,-1.8) K8(1,-1.8) K9(1.4,-1.8) K10(1.8,-1.8)
F.SilkS:
  region: -2.211,2.441 -2.711,2.441 -2.211,2.942
  lines w0.254: -2.211,1.442 -2.211,-2.441 2.211,-2.441 2.211,2.441 -1.211,2.441
Top Assembly:
  lines w0.254: -2.101,-2.331 2.101,-2.331 2.101,2.331 -1.101,2.331 -2.101,1.332 -2.101,-2.331
  text "'.Designator'" at -0.84,4.047 h1
Top Courtyard:
  lines w0.254: -3.11,-3.34 3.11,-3.34 3.11,3.34 -3.11,3.34 -3.11,-3.34
Top Designator:
  text ".Designator" at -7.618,-0.358 h1.52

## ST_WLCSP-100_Die446 [mm]
pads (100):
  round 0.225 smd: A1(-1.8,1.8) A2(-1.4,1.8) A3(-1,1.8) A4(-0.6,1.8) A5(-0.2,1.8) A6(0.2,1.8) A7(0.6,1.8) A8(1,1.8) A9(1.4,1.8) A10(1.8,1.8) B1(-1.8,1.4) B2(-1.4,1.4) B3(-1,1.4) B4(-0.6,1.4) B5(-0.2,1.4) B6(0.2,1.4) B7(0.6,1.4) B8(1,1.4) B9(1.4,1.4) B10(1.8,1.4) C1(-1.8,1) C2(-1.4,1) C3(-1,1) C4(-0.6,1) C5(-0.2,1) C6(0.2,1) C7(0.6,1) C8(1,1) C9(1.4,1) C10(1.8,1) D1(-1.8,0.6) D2(-1.4,0.6) D3(-1,0.6) D4(-0.6,0.6) D5(-0.2,0.6) D6(0.2,0.6) D7(0.6,0.6) D8(1,0.6) D9(1.4,0.6) D10(1.8,0.6) E1(-1.8,0.2) E2(-1.4,0.2) E3(-1,0.2) E4(-0.6,0.2) E5(-0.2,0.2) E6(0.2,0.2) E7(0.6,0.2) E8(1,0.2) E9(1.4,0.2) E10(1.8,0.2) F1(-1.8,-0.2) F2(-1.4,-0.2) F3(-1,-0.2) F4(-0.6,-0.2) F5(-0.2,-0.2) F6(0.2,-0.2) F7(0.6,-0.2) F8(1,-0.2) F9(1.4,-0.2) F10(1.8,-0.2) G1(-1.8,-0.6) G2(-1.4,-0.6) G3(-1,-0.6) G4(-0.6,-0.6) G5(-0.2,-0.6) G6(0.2,-0.6) G7(0.6,-0.6) G8(1,-0.6) G9(1.4,-0.6) G10(1.8,-0.6) H1(-1.8,-1) H2(-1.4,-1) H3(-1,-1) H4(-0.6,-1) H5(-0.2,-1) H6(0.2,-1) H7(0.6,-1) H8(1,-1) H9(1.4,-1) H10(1.8,-1) J1(-1.8,-1.4) J2(-1.4,-1.4) J3(-1,-1.4) J4(-0.6,-1.4) J5(-0.2,-1.4) J6(0.2,-1.4) J7(0.6,-1.4) J8(1,-1.4) J9(1.4,-1.4) J10(1.8,-1.4) K1(-1.8,-1.8) K2(-1.4,-1.8) K3(-1,-1.8) K4(-0.6,-1.8) K5(-0.2,-1.8) K6(0.2,-1.8) K7(0.6,-1.8) K8(1,-1.8) K9(1.4,-1.8) K10(1.8,-1.8)
F.SilkS:
  region: -2.498,2.631 -2.997,2.631 -2.498,3.13
  lines w0.254: -2.498,1.63 -2.498,-2.631 2.498,-2.631 2.498,2.631 -1.498,2.631
Top Assembly:
  lines w0.254: -2.388,-2.521 2.388,-2.521 2.388,2.521 -1.388,2.521 -2.388,1.52 -2.388,-2.521
  text "'.Designator'" at -4.047,-0.84 h1
Top Courtyard:
  lines w0.254: -3.39,-3.53 3.39,-3.53 3.39,3.53 -3.39,3.53 -3.39,-3.53
Top Designator:
  text ".Designator" at -7.768,-0.508 h1.52

## ST_WLCSP-100_Die452 [mm]
pads (100):
  round 0.225 smd: A1(-1.8,1.8) A2(-1.4,1.8) A3(-1,1.8) A4(-0.6,1.8) A5(-0.2,1.8) A6(0.2,1.8) A7(0.6,1.8) A8(1,1.8) A9(1.4,1.8) A10(1.8,1.8) B1(-1.8,1.4) B2(-1.4,1.4) B3(-1,1.4) B4(-0.6,1.4) B5(-0.2,1.4) B6(0.2,1.4) B7(0.6,1.4) B8(1,1.4) B9(1.4,1.4) B10(1.8,1.4) C1(-1.8,1) C2(-1.4,1) C3(-1,1) C4(-0.6,1) C5(-0.2,1) C6(0.2,1) C7(0.6,1) C8(1,1) C9(1.4,1) C10(1.8,1) D1(-1.8,0.6) D2(-1.4,0.6) D3(-1,0.6) D4(-0.6,0.6) D5(-0.2,0.6) D6(0.2,0.6) D7(0.6,0.6) D8(1,0.6) D9(1.4,0.6) D10(1.8,0.6) E1(-1.8,0.2) E2(-1.4,0.2) E3(-1,0.2) E4(-0.6,0.2) E5(-0.2,0.2) E6(0.2,0.2) E7(0.6,0.2) E8(1,0.2) E9(1.4,0.2) E10(1.8,0.2) F1(-1.8,-0.2) F2(-1.4,-0.2) F3(-1,-0.2) F4(-0.6,-0.2) F5(-0.2,-0.2) F6(0.2,-0.2) F7(0.6,-0.2) F8(1,-0.2) F9(1.4,-0.2) F10(1.8,-0.2) G1(-1.8,-0.6) G2(-1.4,-0.6) G3(-1,-0.6) G4(-0.6,-0.6) G5(-0.2,-0.6) G6(0.2,-0.6) G7(0.6,-0.6) G8(1,-0.6) G9(1.4,-0.6) G10(1.8,-0.6) H1(-1.8,-1) H2(-1.4,-1) H3(-1,-1) H4(-0.6,-1) H5(-0.2,-1) H6(0.2,-1) H7(0.6,-1) H8(1,-1) H9(1.4,-1) H10(1.8,-1) J1(-1.8,-1.4) J2(-1.4,-1.4) J3(-1,-1.4) J4(-0.6,-1.4) J5(-0.2,-1.4) J6(0.2,-1.4) J7(0.6,-1.4) J8(1,-1.4) J9(1.4,-1.4) J10(1.8,-1.4) K1(-1.8,-1.8) K2(-1.4,-1.8) K3(-1,-1.8) K4(-0.6,-1.8) K5(-0.2,-1.8) K6(0.2,-1.8) K7(0.6,-1.8) K8(1,-1.8) K9(1.4,-1.8) K10(1.8,-1.8)
F.SilkS:
  region: -2.211,2.441 -2.711,2.441 -2.211,2.942
  lines w0.254: -2.211,1.442 -2.211,-2.441 2.211,-2.441 2.211,2.441 -1.211,2.441
Top Assembly:
  lines w0.254: -2.101,-2.331 2.101,-2.331 2.101,2.331 -1.101,2.331 -2.101,1.332 -2.101,-2.331
  text "'.Designator'" at -0.84,4.047 h1
Top Courtyard:
  lines w0.254: -3.11,-3.34 3.11,-3.34 3.11,3.34 -3.11,3.34 -3.11,-3.34
Top Designator:
  text ".Designator" at -7.618,-0.358 h1.52